# Altium schematic symbol library Sheet_12085BUZZER.SCHLIB: 1 symbol
Pins are listed as number, name and electrical type; pins without a type are passive.

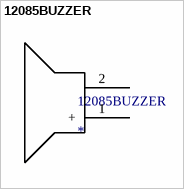
[diagram p0: symbol 12085BUZZER]

## 12085BUZZER
designator 12085BUZZER
12mm*8.5mmBUZZER
footprint BUZ-TH_BD12.0-P6.50-D0.6_SEA-1285F
pins: 1 +, 2